# Altium footprint library AD8302.PcbLib: 1 footprints
Each footprint in its own frame and in the unit in brackets; x right, y up, seen from the top. Pads: shape width x height; smd on the part's side, far side on the other; paste and mask are expansions set on the pad; w line width, h text height; cw(c..) or ccw(c..) is an arc to the next point about the centre after c.
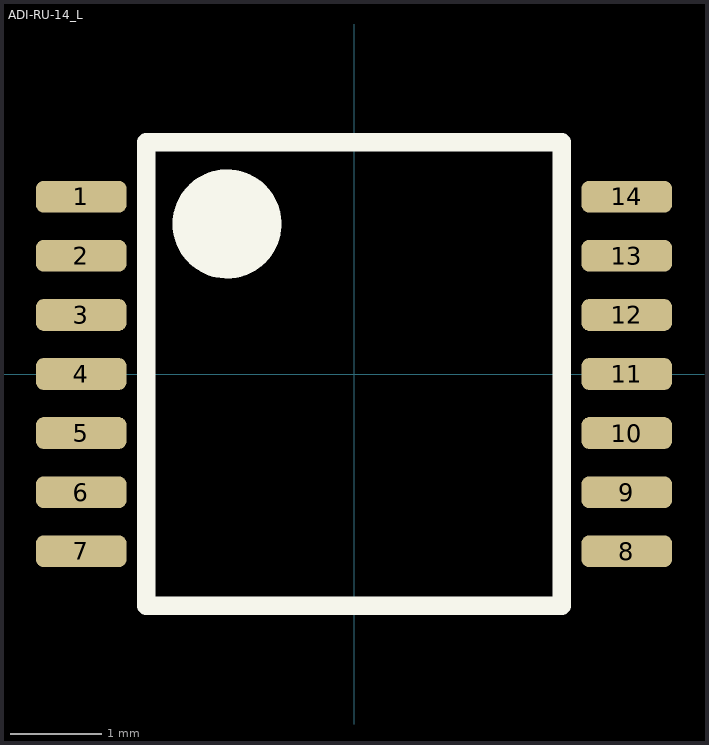
[diagram p0: the footprint, top view; thin cyan lines are the x and y axes]

## ADI-RU-14_L [mm] "TSOP, 14-Leads, Body 5x4.4mm, Pitch 0.65mm, IPC High Density"
height 1.2
pads (14):
  rrect50% 1x0.35 smd mask+0: 1(-3,1.95) 2(-3,1.3) 3(-3,0.65) 4(-3,0) 5(-3,-0.65) 6(-3,-1.3) 7(-3,-1.95) 8(3,-1.95) 9(3,-1.3) 10(3,-0.65) 11(3,0) 12(3,0.65) 13(3,1.3) 14(3,1.95)
Top Overlay:
  circle w0.6: c-1.397,1.651 r0.3
  lines w0.2: -2.286,-2.55 2.286,-2.55 2.286,2.55 -2.286,2.55 -2.286,-2.55
3D body "User Library-TSSOP14-1.step": height 1.1, standoff 0, extent -3.2,-2.5 3.2,2.5